# EAGLE library part 750315144 (library WE-IBTI)
WE-IBTI Isolated Buck Transformers Characteristics Flybuck™ topology Operating Temp: -40°C to +125°C Excellent leakage inductance and interwinding capacitance performance Applications Industrial Programmable Logic Controllers (PLCs) Building automation and process control Isolated interface power: RS-422, RS-485, CAN, I2C, LAN Motor drive control, inverters and industrial automation Isolated low power drivers & regulators, smart e-meters Bias power supplies for gate drives and op-amps <https://www.we-online.com/components/media/o790826v209%20family-MID-IBTI.1673.jpg> Details see: www.we-online.com/en/components/products/WE-IBTI <www.we-online.com/catalog/WE-IBTI/?utm_source=eagle_model&utm_medium=description_link&utm_campaign=eisos_eagle> Created by Ella Wu 2024-06-07 2024 (C) Wurth Elektronik
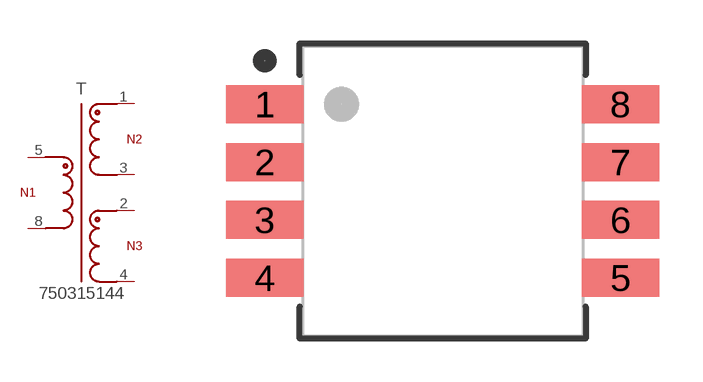
[diagram p4: symbol with the pads of WE-IBTI_ER9.5S_L10W14H5; footprint WE-IBTI_ER9.5S_L10W14H5]

Designator prefix T

## 750315144 (DATASHEET-URL: https://www.we-online.com/redexpert/spec/750315144?ae; FSWITCH: 300kHz; HEIGHT: 5mm; IOUT1: 30mA; IOUT2: 45mA; ISAT: 0.5A; L: 80uH; LENGTH: 10mm; LS: 2100nH; MOUNT: SMT; N: 1:2:2; PART-NUMBER: 750315144; SIZE: ER9.5S; VALUE: 750315144; VBUCK: 9V; VIN: 12 - 36 V (DC); VOUT1: -17.5V; VOUT2: 17.5V; VT: 490V(AC); WIDTH: 14mm)  [WE-IBTI_ER9.5S_L10W14H5]
1  1  pas
2  2  pas
3  3  pas
4  4  pas
5  5  pas
8  8  pas

## Footprint WE-IBTI_ER9.5S_L10W14H5 (pad centres in mm)
WE-IBTI Isolated Buck Transformers Size: ER9.5S,SMT,8pins LXWXH=10X14X5mm
smd 2.67 x 1.31: 1 -6.15,3; 2 -6.15,1; 3 -6.15,-1; 4 -6.15,-3; 5 6.15,-3; 6 6.15,-1; 7 6.15,1; 8 6.15,3